# EAGLE library part WIFI_KIT32 (library CRD)
Placa de desenvolvimento ESP32 da Heltech
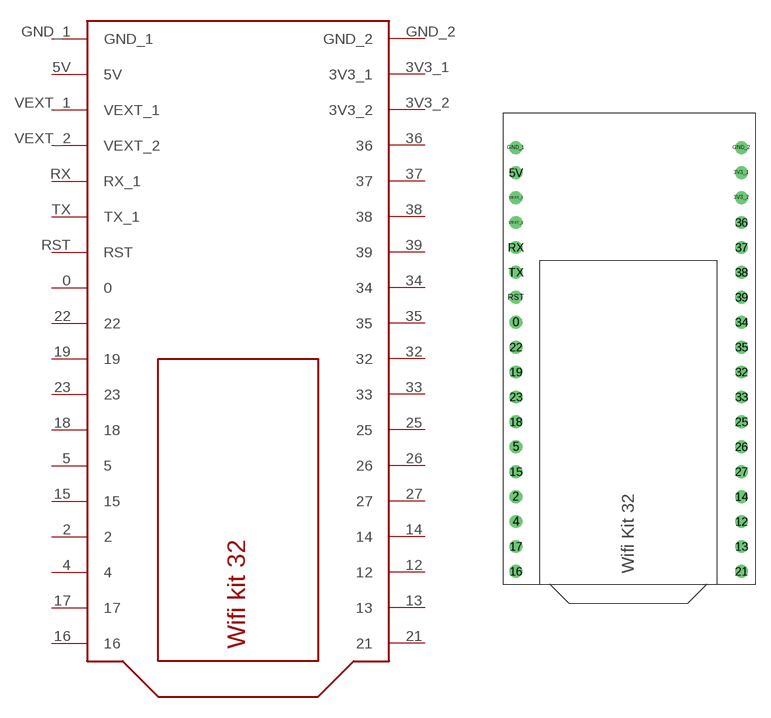
[diagram p3: symbol with the pads of WIFI_KIT32; footprint WIFI_KIT32]

Designator prefix -

## WIFI_KIT32  [WIFI_KIT32]
0  0
2  2
3V3_1  3V3_1
3V3_2  3V3_2
4  4
5  5
5V  5V
12  12
13  13
14  14
15  15
16  16
17  17
18  18
19  19
21  21
22  22
23  23
25  25
26  26
27  27
32  32
33  33
34  34
35  35
36  36
37  37
38  38
39  39
GND_1  GND_1
GND_2  GND_2
RST  RST
RX  RX_1
TX  TX_1
VEXT_1  VEXT_1
VEXT_2  VEXT_2

## Footprint WIFI_KIT32 (pad centres in mm)
drill 0.8: 0 -11.77,12.73; 2 -11.77,-5.05; 3V3_1 11.23,27.97; 3V3_2 11.23,25.43; 4 -11.77,-7.59; 5 -11.77,0.03; 5V -11.77,27.97; 12 11.23,-7.59; 13 11.23,-10.13; 14 11.23,-5.05; 15 -11.77,-2.51; 16 -11.77,-12.67; 17 -11.77,-10.13; 18 -11.77,2.57; 19 -11.77,7.65; 21 11.23,-12.67; 22 -11.77,10.19; 23 -11.77,5.11; 25 11.23,2.57; 26 11.23,0.03; 27 11.23,-2.51; 32 11.23,7.65; 33 11.23,5.11; 34 11.23,12.73; 35 11.23,10.19; 36 11.23,22.89; 37 11.23,20.35; 38 11.23,17.81; 39 11.23,15.27; GND_1 -11.77,30.51; GND_2 11.23,30.51; RST -11.77,15.27; RX -11.77,20.35; TX -11.77,17.81; VEXT_1 -11.77,25.43; VEXT_2 -11.77,22.89